# EAGLE library part MTA10-156 (library con-amp)
AMP CONNECTOR
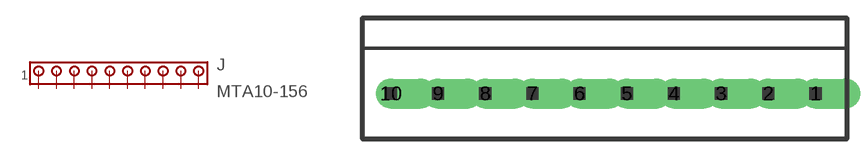
[diagram p115: symbol with the pads of 1X10MTA; footprint 1X10MTA]

Designator prefix J

## MTA10-156  [1X10MTA]
1  1  pas
2  2  pas
3  3  pas
4  4  pas
5  5  pas
6  6  pas
7  7  pas
8  8  pas
9  9  pas
10  10  pas

## Footprint 1X10MTA (pad centres in mm)
AMP CONNECTOR
drill 1.676 offset: 1 17.831,0; 2 13.868,0; 3 9.906,0; 4 5.944,0; 5 1.981,0; 6 -1.981,0; 7 -5.944,0; 8 -9.906,0; 9 -13.868,0; 10 -17.831,0